# EAGLE library part TCA9458_MODUL (library tda9458)
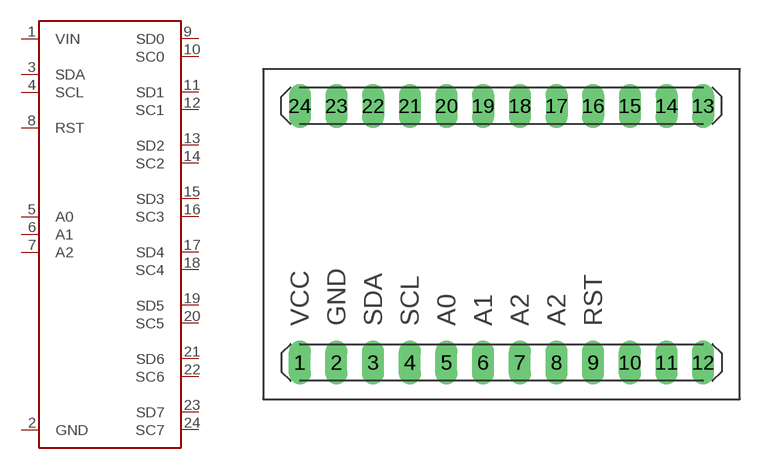
[diagram p1: symbol with the pads of MODUL; footprint MODUL]

Designator prefix -

## TCA9458_MODUL  [MODUL]
1  VIN
2  GND
3  SDA
4  SCL
5  A0
6  A1
7  A2
8  RST
9  SD0
10  SC0
11  SD1
12  SC1
13  SD2
14  SC2
15  SD3
16  SC3
17  SD4
18  SC4
19  SD5
20  SC5
21  SD6
22  SC6
23  SD7
24  SC7

## Footprint MODUL (pad centres in mm)
drill 1.016 long: 1 -13.97,-8.89; 2 -11.43,-8.89; 3 -8.89,-8.89; 4 -6.35,-8.89; 5 -3.81,-8.89; 6 -1.27,-8.89; 7 1.27,-8.89; 8 3.81,-8.89; 9 6.35,-8.89; 10 8.89,-8.89; 11 11.43,-8.89; 12 13.97,-8.89; 13 13.97,8.89; 14 11.43,8.89; 15 8.89,8.89; 16 6.35,8.89; 17 3.81,8.89; 18 1.27,8.89; 19 -1.27,8.89; 20 -3.81,8.89; 21 -6.35,8.89; 22 -8.89,8.89; 23 -11.43,8.89; 24 -13.97,8.89